# Altium footprint library Devindia_v2.0.PcbLib: 105 footprints (part 5 of 7)
Each footprint in its own frame and in the unit in brackets; x right, y up, seen from the top. Pads: shape width x height; smd on the part's side, far side on the other; paste and mask are expansions set on the pad; w line width, h text height; cw(c..) or ccw(c..) is an arc to the next point about the centre after c.
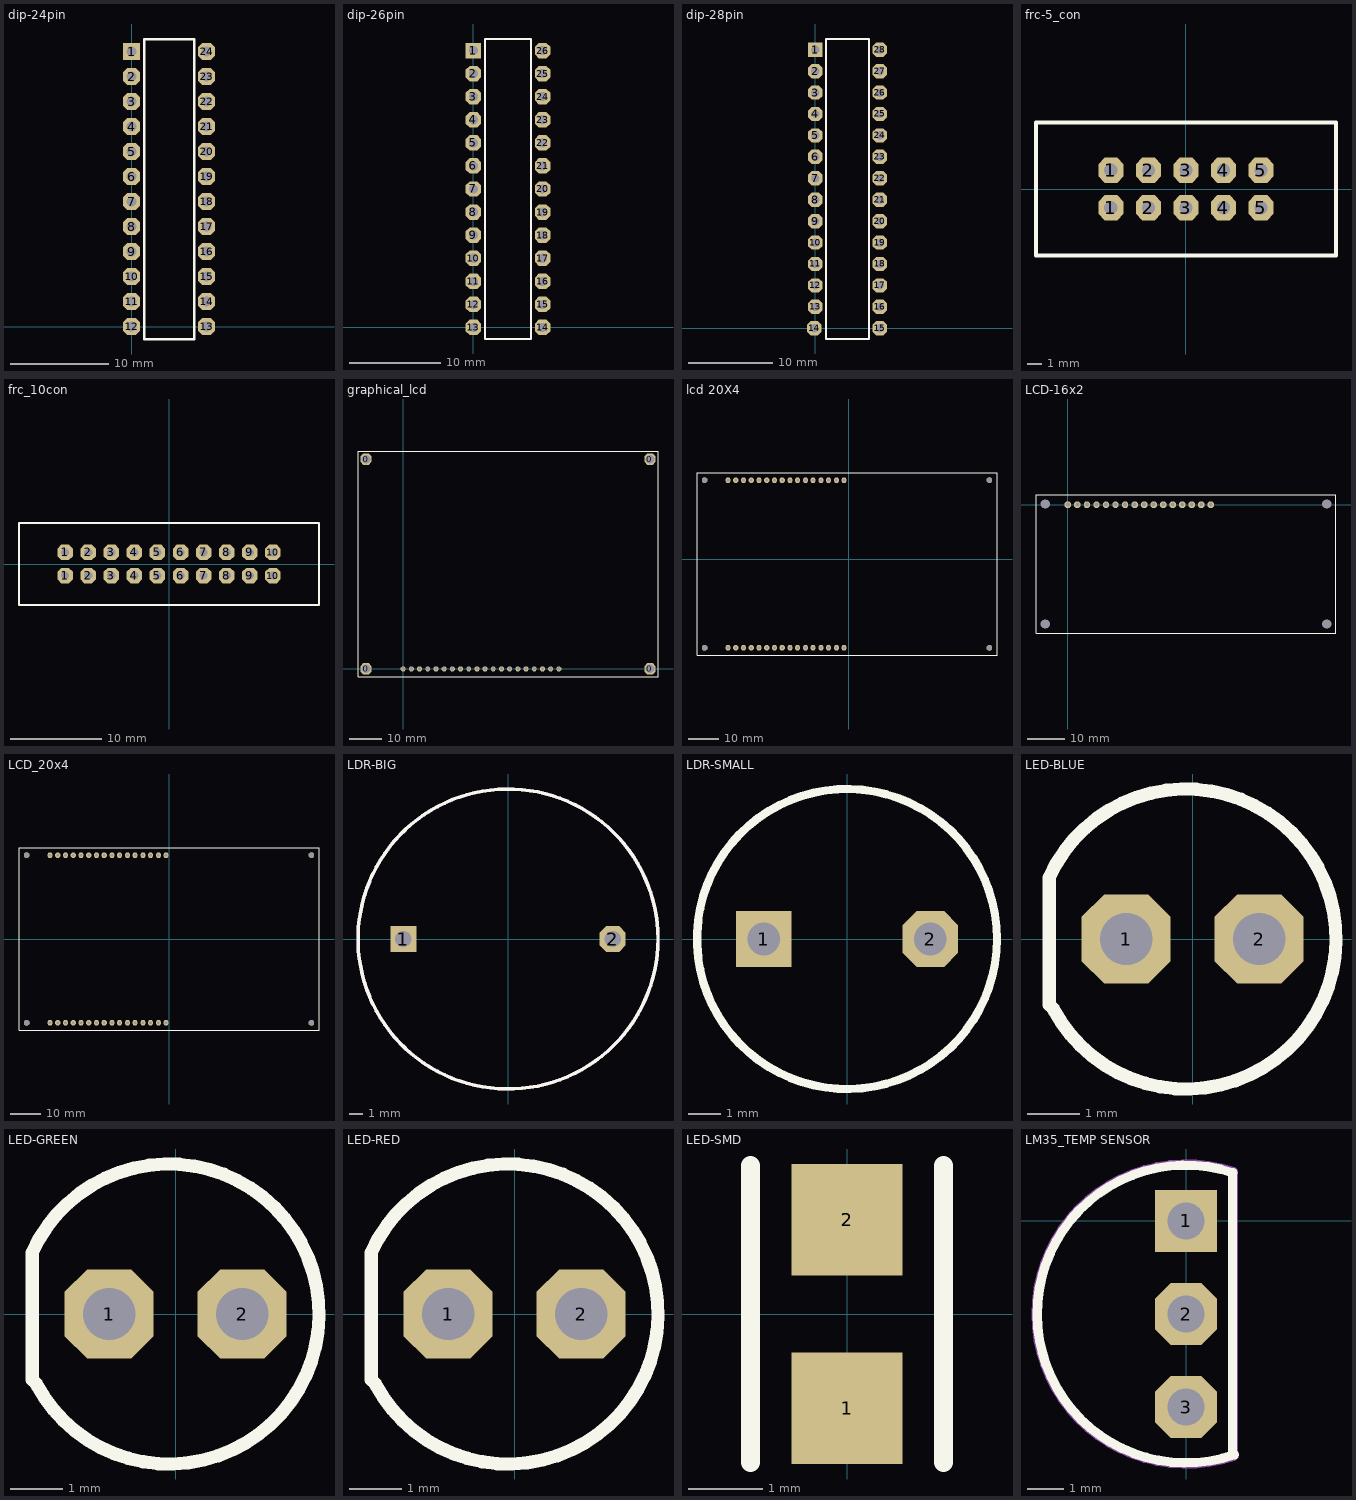
[diagram p4: the footprints below, top view; thin cyan lines are the x and y axes]

## dip-24pin [mm]
pads (24):
  rect 1.7x1.7 hole 1: 1(0,27.94)
  oct 1.7x1.7 hole 1: 2(0,25.4) 3(0,22.86) 4(0,20.32) 5(0,17.78) 6(0,15.24) 7(0,12.7) 8(0,10.16) 9(0,7.62) 10(0,5.08) 11(0,2.54) 12(0,0) 13(7.62,0) 14(7.62,2.54) 15(7.62,5.08) 16(7.62,7.62) 17(7.62,10.16) 18(7.62,12.7) 19(7.62,15.24) 20(7.62,17.78) 21(7.62,20.32) 22(7.62,22.86) 23(7.62,25.4) 24(7.62,27.94)
Top Overlay:
  lines w0.254: 1.27,-1.27 6.35,-1.27 6.35,29.21 1.27,29.21 1.27,-1.27
3D body: height 1.63, standoff 1.37, extent 7.621,4.699 7.873,5.461
3D body: height 1.5, standoff 0, extent 7.62,4.699 7.874,5.461
3D body: height 1.63, standoff 1.37, extent 7.621,7.239 7.873,8.001
3D body: height 1.5, standoff 0, extent 7.62,7.239 7.874,8.001
3D body: height 1.63, standoff 1.37, extent 5.842,2.159 7.747,2.921
3D body: height 1.63, standoff 1.37, extent 7.621,17.399 7.873,18.161
3D body: height 1.5, standoff 0, extent 7.62,17.399 7.874,18.161
3D body: height 1.63, standoff 1.37, extent 5.842,12.319 7.747,13.081
3D body: height 1.63, standoff 1.37, extent 7.621,14.859 7.873,15.621
3D body: height 1.5, standoff 0, extent 7.62,14.859 7.874,15.621
3D body: height 1.63, standoff 1.37, extent 5.842,9.779 7.747,10.541
3D body: height 1.63, standoff 1.37, extent 7.621,12.319 7.873,13.081
3D body: height 1.5, standoff 0, extent 7.62,12.319 7.874,13.081
3D body: height 1.63, standoff 1.37, extent 5.842,7.239 7.747,8.001
3D body: height 1.63, standoff 1.37, extent 7.621,9.779 7.873,10.541
3D body: height 1.5, standoff 0, extent 7.62,9.779 7.874,10.541
3D body: height 1.63, standoff 1.37, extent 5.842,4.699 7.747,5.461
3D body: height 1.63, standoff 1.37, extent 7.621,19.939 7.873,20.701
3D body: height 1.5, standoff 0, extent 7.62,19.939 7.874,20.701
3D body: height 1.63, standoff 1.37, extent 5.842,14.859 7.747,15.621
3D body: height 1.63, standoff 1.37, extent 7.621,22.479 7.873,23.241
3D body: height 1.5, standoff 0, extent 7.62,22.479 7.874,23.241
3D body: height 1.63, standoff 1.37, extent 5.842,17.399 7.747,18.161
3D body: height 1.63, standoff 1.37, extent 7.621,25.019 7.873,25.781
3D body: height 1.5, standoff 0, extent 7.62,25.019 7.874,25.781
3D body: height 1.63, standoff 1.37, extent 5.842,19.939 7.747,20.701
3D body: height 1.63, standoff 1.37, extent 7.621,27.559 7.873,28.321
3D body: height 1.5, standoff 0, extent 7.62,27.559 7.874,28.321
3D body: height 1.63, standoff 1.37, extent 5.842,22.479 7.747,23.241
3D body: height 1.63, standoff 1.37, extent 5.842,25.019 7.747,25.781
3D body: height 1.63, standoff 1.37, extent 5.842,27.559 7.747,28.321
3D body: height 1.63, standoff 1.37, extent 5.842,-0.381 7.747,0.381
3D body: height 1.5, standoff 0, extent 7.62,-0.381 7.874,0.381
3D body: height 1.63, standoff 1.37, extent 7.621,-0.381 7.873,0.381
3D body: height 1.63, standoff 1.37, extent -0.127,25.019 1.778,25.781
3D body: height 1.63, standoff 1.37, extent -0.127,27.559 1.778,28.321
3D body: height 1.63, standoff 1.37, extent -0.127,22.479 1.778,23.241
3D body: height 1.63, standoff 1.37, extent -0.127,19.939 1.778,20.701
3D body: height 1.63, standoff 1.37, extent -0.127,17.399 1.778,18.161
3D body: height 1.63, standoff 1.37, extent -0.127,14.859 1.778,15.621
3D body: height 1.63, standoff 1.37, extent -0.127,12.319 1.778,13.081
3D body: height 1.63, standoff 1.37, extent -0.127,9.779 1.778,10.541
3D body: height 1.63, standoff 1.37, extent -0.127,7.239 1.778,8.001
3D body: height 1.63, standoff 1.37, extent -0.127,4.699 1.778,5.461
3D body: height 1.63, standoff 1.37, extent -0.127,2.159 1.778,2.921
3D body: height 1.63, standoff 1.37, extent -0.127,-0.381 1.778,0.381
3D body: height 1.63, standoff 1.37, extent -0.126,27.559 0.126,28.321
3D body: height 1.5, standoff 0, extent -0.127,27.559 0.127,28.321
3D body: height 1.63, standoff 1.37, extent -0.126,25.019 0.126,25.781
3D body: height 1.5, standoff 0, extent -0.127,25.019 0.127,25.781
3D body: height 1.63, standoff 1.37, extent -0.126,22.479 0.126,23.241
3D body: height 1.5, standoff 0, extent -0.127,22.479 0.127,23.241
3D body: height 1.63, standoff 1.37, extent -0.126,19.939 0.126,20.701
3D body: height 1.5, standoff 0, extent -0.127,19.939 0.127,20.701
3D body: height 1.63, standoff 1.37, extent -0.126,17.399 0.126,18.161
3D body: height 1.5, standoff 0, extent -0.127,17.399 0.127,18.161
3D body: height 1.63, standoff 1.37, extent -0.126,14.859 0.126,15.621
3D body: height 1.5, standoff 0, extent -0.127,14.859 0.127,15.621
3D body: height 1.63, standoff 1.37, extent -0.126,12.319 0.126,13.081
3D body: height 1.5, standoff 0, extent -0.127,12.319 0.127,13.081
3D body: height 1.63, standoff 1.37, extent -0.126,9.779 0.126,10.541
3D body: height 1.5, standoff 0, extent -0.127,9.779 0.127,10.541
3D body: height 1.63, standoff 1.37, extent -0.126,7.112 0.126,7.874
3D body: height 1.5, standoff 0, extent -0.127,7.112 0.127,7.874
3D body: height 1.63, standoff 1.37, extent -0.126,4.699 0.126,5.461
3D body: height 1.5, standoff 0, extent -0.127,4.699 0.127,5.461
3D body: height 1.63, standoff 1.37, extent -0.126,2.159 0.126,2.921
3D body: height 1.5, standoff 0, extent -0.127,2.159 0.127,2.921
3D body: height 1.63, standoff 1.37, extent -0.126,-0.381 0.126,0.381
3D body: height 1.5, standoff 0, extent -0.127,-0.381 0.127,0.381
3D body: height 2, standoff 1.1, extent 1.27,-1.27 6.35,29.21
3D body: height 1.63, standoff 1.37, extent 7.494,7.239 7.746,8.001
3D body: height 1.5, standoff 0, extent 7.493,7.239 7.747,8.001
3D body: height 2.51, standoff 2.5, extent 2.041,27.452 3.039,28.448
3D body: height 2.5, standoff 2, extent 1.778,-1.27 5.842,29.21

## dip-26pin [mm]
pads (26):
  rect 1.7x1.7 hole 1: 1(0,30.48)
  oct 1.7x1.7 hole 1: 2(0,27.94) 3(0,25.4) 4(0,22.86) 5(0,20.32) 6(0,17.78) 7(0,15.24) 8(0,12.7) 9(0,10.16) 10(0,7.62) 11(0,5.08) 12(0,2.54) 13(0,0) 14(7.62,0) 15(7.62,2.54) 16(7.62,5.08) 17(7.62,7.62) 18(7.62,10.16) 19(7.62,12.7) 20(7.62,15.24) 21(7.62,17.78) 22(7.62,20.32) 23(7.62,22.86) 24(7.62,25.4) 25(7.62,27.94) 26(7.62,30.48)
Top Overlay:
  lines w0.254: 1.27,-1.27 1.27,31.75 6.35,31.75 6.35,-1.27 1.27,-1.27
3D body: height 2.5, standoff 2, extent 1.778,-1.27 5.842,31.75
3D body: height 2.51, standoff 2.5, extent 2.041,29.992 3.039,30.988
3D body: height 1.5, standoff 0, extent 7.493,4.699 7.747,5.461
3D body: height 1.63, standoff 1.37, extent 7.494,4.699 7.746,5.461
3D body: height 2, standoff 1.1, extent 1.27,-1.27 6.35,31.75
3D body: height 1.5, standoff 0, extent -0.127,2.159 0.127,2.921
3D body: height 1.63, standoff 1.37, extent -0.126,2.159 0.126,2.921
3D body: height 1.5, standoff 0, extent -0.127,4.699 0.127,5.461
3D body: height 1.63, standoff 1.37, extent -0.126,4.699 0.126,5.461
3D body: height 1.5, standoff 0, extent -0.127,7.239 0.127,8.001
3D body: height 1.63, standoff 1.37, extent -0.126,7.239 0.126,8.001
3D body: height 1.5, standoff 0, extent -0.127,9.652 0.127,10.414
3D body: height 1.63, standoff 1.37, extent -0.126,9.652 0.126,10.414
3D body: height 1.5, standoff 0, extent -0.127,12.319 0.127,13.081
3D body: height 1.63, standoff 1.37, extent -0.126,12.319 0.126,13.081
3D body: height 1.5, standoff 0, extent -0.127,14.859 0.127,15.621
3D body: height 1.63, standoff 1.37, extent -0.126,14.859 0.126,15.621
3D body: height 1.5, standoff 0, extent -0.127,17.399 0.127,18.161
3D body: height 1.63, standoff 1.37, extent -0.126,17.399 0.126,18.161
3D body: height 1.5, standoff 0, extent -0.127,19.939 0.127,20.701
3D body: height 1.63, standoff 1.37, extent -0.126,19.939 0.126,20.701
3D body: height 1.5, standoff 0, extent -0.127,22.479 0.127,23.241
3D body: height 1.63, standoff 1.37, extent -0.126,22.479 0.126,23.241
3D body: height 1.5, standoff 0, extent -0.127,25.019 0.127,25.781
3D body: height 1.63, standoff 1.37, extent -0.126,25.019 0.126,25.781
3D body: height 1.5, standoff 0, extent -0.127,27.559 0.127,28.321
3D body: height 1.63, standoff 1.37, extent -0.126,27.559 0.126,28.321
3D body: height 1.5, standoff 0, extent -0.127,30.099 0.127,30.861
3D body: height 1.63, standoff 1.37, extent -0.126,30.099 0.126,30.861
3D body: height 1.63, standoff 1.37, extent -0.127,2.159 1.778,2.921
3D body: height 1.63, standoff 1.37, extent -0.127,4.699 1.778,5.461
3D body: height 1.63, standoff 1.37, extent -0.127,7.239 1.778,8.001
3D body: height 1.63, standoff 1.37, extent -0.127,9.779 1.778,10.541
3D body: height 1.63, standoff 1.37, extent -0.127,12.319 1.778,13.081
3D body: height 1.63, standoff 1.37, extent -0.127,14.859 1.778,15.621
3D body: height 1.63, standoff 1.37, extent -0.127,17.399 1.778,18.161
3D body: height 1.63, standoff 1.37, extent -0.127,19.939 1.778,20.701
3D body: height 1.63, standoff 1.37, extent -0.127,22.479 1.778,23.241
3D body: height 1.63, standoff 1.37, extent -0.127,25.019 1.778,25.781
3D body: height 1.63, standoff 1.37, extent -0.127,30.099 1.778,30.861
3D body: height 1.63, standoff 1.37, extent -0.127,27.559 1.778,28.321
3D body: height 1.63, standoff 1.37, extent -0.253,-0.381 -0.001,0.381
3D body: height 1.5, standoff 0, extent -0.254,-0.381 0,0.381
3D body: height 1.63, standoff 1.37, extent -0.127,-0.381 1.778,0.381
3D body: height 1.63, standoff 1.37, extent 5.842,30.099 7.747,30.861
3D body: height 1.63, standoff 1.37, extent 5.842,27.559 7.747,28.321
3D body: height 1.63, standoff 1.37, extent 5.842,25.019 7.747,25.781
3D body: height 1.5, standoff 0, extent 7.62,30.099 7.874,30.861
3D body: height 1.63, standoff 1.37, extent 7.621,30.099 7.873,30.861
3D body: height 1.63, standoff 1.37, extent 5.842,22.479 7.747,23.241
3D body: height 1.5, standoff 0, extent 7.62,27.559 7.874,28.321
3D body: height 1.63, standoff 1.37, extent 7.621,27.559 7.873,28.321
3D body: height 1.63, standoff 1.37, extent 5.842,19.939 7.747,20.701
3D body: height 1.5, standoff 0, extent 7.62,25.019 7.874,25.781
3D body: height 1.63, standoff 1.37, extent 7.621,25.019 7.873,25.781
3D body: height 1.63, standoff 1.37, extent 5.842,17.399 7.747,18.161
3D body: height 1.5, standoff 0, extent 7.62,22.479 7.874,23.241
3D body: height 1.63, standoff 1.37, extent 7.621,22.479 7.873,23.241
3D body: height 1.63, standoff 1.37, extent 5.842,14.859 7.747,15.621
3D body: height 1.5, standoff 0, extent 7.62,19.939 7.874,20.701
3D body: height 1.63, standoff 1.37, extent 7.621,19.939 7.873,20.701
3D body: height 1.63, standoff 1.37, extent 5.842,12.319 7.747,13.081
3D body: height 1.5, standoff 0, extent 7.62,17.399 7.874,18.161
3D body: height 1.63, standoff 1.37, extent 7.621,17.399 7.873,18.161
3D body: height 1.63, standoff 1.37, extent 5.842,2.159 7.747,2.921
3D body: height 1.5, standoff 0, extent 7.62,7.239 7.874,8.001
3D body: height 1.63, standoff 1.37, extent 7.621,7.239 7.873,8.001
3D body: height 1.63, standoff 1.37, extent 5.842,4.699 7.747,5.461
3D body: height 1.5, standoff 0, extent 7.62,9.779 7.874,10.541
3D body: height 1.63, standoff 1.37, extent 7.621,9.779 7.873,10.541
3D body: height 1.63, standoff 1.37, extent 5.842,7.239 7.747,8.001
3D body: height 1.5, standoff 0, extent 7.62,12.319 7.874,13.081
3D body: height 1.63, standoff 1.37, extent 7.621,12.319 7.873,13.081
3D body: height 1.63, standoff 1.37, extent 5.842,9.779 7.747,10.541
3D body: height 1.5, standoff 0, extent 7.62,14.859 7.874,15.621
3D body: height 1.63, standoff 1.37, extent 7.621,14.859 7.873,15.621
3D body: height 1.63, standoff 1.37, extent 5.842,-0.381 7.747,0.381
3D body: height 1.5, standoff 0, extent 7.62,4.699 7.874,5.461
3D body: height 1.63, standoff 1.37, extent 7.621,4.699 7.873,5.461
3D body: height 1.5, standoff 0, extent 7.62,2.159 7.874,2.921
3D body: height 1.63, standoff 1.37, extent 7.621,2.159 7.873,2.921

## dip-28pin [mm]
pads (28):
  rect 1.7x1.7 hole 1: 1(0,33.02)
  oct 1.7x1.7 hole 1: 2(0,30.48) 3(0,27.94) 4(0,25.4) 5(0,22.86) 6(0,20.32) 7(0,17.78) 8(0,15.24) 9(0,12.7) 10(0,10.16) 11(0,7.62) 12(0,5.08) 13(0,2.54) 14(-0.126,0) 15(7.62,0) 16(7.62,2.54) 17(7.62,5.08) 18(7.62,7.62) 19(7.62,10.16) 20(7.62,12.7) 21(7.62,15.24) 22(7.62,17.78) 23(7.62,20.32) 24(7.62,22.86) 25(7.62,25.4) 26(7.62,27.94) 27(7.62,30.48) 28(7.62,33.02)
Top Overlay:
  lines w0.254: 1.27,-1.27 6.35,-1.27 6.35,34.29 1.27,34.29 1.27,-1.27
3D body: height 1.63, standoff 1.37, extent 7.621,-0.381 7.873,0.381
3D body: height 1.5, standoff 0, extent 7.62,-0.381 7.874,0.381
3D body: height 1.63, standoff 1.37, extent 5.842,-0.381 7.747,0.381
3D body: height 1.63, standoff 1.37, extent 7.621,2.159 7.873,2.921
3D body: height 1.5, standoff 0, extent 7.62,2.159 7.874,2.921
3D body: height 1.63, standoff 1.37, extent 5.842,2.159 7.747,2.921
3D body: height 1.63, standoff 1.37, extent 7.621,12.319 7.873,13.081
3D body: height 1.5, standoff 0, extent 7.62,12.319 7.874,13.081
3D body: height 1.63, standoff 1.37, extent 5.842,12.319 7.747,13.081
3D body: height 1.63, standoff 1.37, extent 7.621,9.779 7.873,10.541
3D body: height 1.5, standoff 0, extent 7.62,9.779 7.874,10.541
3D body: height 1.63, standoff 1.37, extent 5.842,9.779 7.747,10.541
3D body: height 1.63, standoff 1.37, extent 7.621,7.239 7.873,8.001
3D body: height 1.5, standoff 0, extent 7.62,7.239 7.874,8.001
3D body: height 1.63, standoff 1.37, extent 5.842,7.239 7.747,8.001
3D body: height 1.63, standoff 1.37, extent 7.621,4.699 7.873,5.461
3D body: height 1.5, standoff 0, extent 7.62,4.699 7.874,5.461
3D body: height 1.63, standoff 1.37, extent 5.842,4.699 7.747,5.461
3D body: height 1.63, standoff 1.37, extent 7.621,14.859 7.873,15.621
3D body: height 1.5, standoff 0, extent 7.62,14.859 7.874,15.621
3D body: height 1.63, standoff 1.37, extent 5.842,14.859 7.747,15.621
3D body: height 1.63, standoff 1.37, extent 7.621,17.399 7.873,18.161
3D body: height 1.5, standoff 0, extent 7.62,17.399 7.874,18.161
3D body: height 1.63, standoff 1.37, extent 5.842,17.399 7.747,18.161
3D body: height 1.63, standoff 1.37, extent 7.621,19.939 7.873,20.701
3D body: height 1.5, standoff 0, extent 7.62,19.939 7.874,20.701
3D body: height 1.63, standoff 1.37, extent 5.842,19.939 7.747,20.701
3D body: height 1.63, standoff 1.37, extent 7.621,22.479 7.873,23.241
3D body: height 1.5, standoff 0, extent 7.62,22.479 7.874,23.241
3D body: height 1.63, standoff 1.37, extent 5.842,22.479 7.747,23.241
3D body: height 1.63, standoff 1.37, extent 7.621,25.019 7.873,25.781
3D body: height 1.5, standoff 0, extent 7.62,25.019 7.874,25.781
3D body: height 1.63, standoff 1.37, extent 5.842,25.019 7.747,25.781
3D body: height 1.63, standoff 1.37, extent 7.621,27.559 7.873,28.321
3D body: height 1.5, standoff 0, extent 7.62,27.559 7.874,28.321
3D body: height 1.63, standoff 1.37, extent 5.842,27.559 7.747,28.321
3D body: height 1.63, standoff 1.37, extent 7.621,30.099 7.873,30.861
3D body: height 1.5, standoff 0, extent 7.62,30.099 7.874,30.861
3D body: height 1.63, standoff 1.37, extent 5.842,30.099 7.747,30.861
3D body: height 1.63, standoff 1.37, extent 7.621,32.639 7.873,33.401
3D body: height 1.5, standoff 0, extent 7.62,32.639 7.874,33.401
3D body: height 1.63, standoff 1.37, extent 5.842,32.639 7.747,33.401
3D body: height 1.63, standoff 1.37, extent -0.127,2.159 1.778,2.921
3D body: height 1.5, standoff 0, extent -0.254,2.159 0,2.921
3D body: height 1.63, standoff 1.37, extent -0.253,2.159 -0.001,2.921
3D body: height 1.63, standoff 1.37, extent -0.127,30.099 1.778,30.861
3D body: height 1.63, standoff 1.37, extent -0.127,32.639 1.778,33.401
3D body: height 1.63, standoff 1.37, extent -0.127,27.559 1.778,28.321
3D body: height 1.63, standoff 1.37, extent -0.127,25.019 1.778,25.781
3D body: height 1.63, standoff 1.37, extent -0.127,22.479 1.778,23.241
3D body: height 1.63, standoff 1.37, extent -0.127,19.939 1.778,20.701
3D body: height 1.63, standoff 1.37, extent -0.127,17.399 1.778,18.161
3D body: height 1.63, standoff 1.37, extent -0.127,14.859 1.778,15.621
3D body: height 1.63, standoff 1.37, extent -0.127,12.319 1.778,13.081
3D body: height 1.63, standoff 1.37, extent -0.127,9.779 1.778,10.541
3D body: height 1.63, standoff 1.37, extent -0.127,7.239 1.778,8.001
3D body: height 1.63, standoff 1.37, extent -0.127,4.699 1.778,5.461
3D body: height 1.63, standoff 1.37, extent -0.126,32.639 0.126,33.401
3D body: height 1.5, standoff 0, extent -0.127,32.639 0.127,33.401
3D body: height 1.63, standoff 1.37, extent -0.126,30.099 0.126,30.861
3D body: height 1.5, standoff 0, extent -0.127,30.099 0.127,30.861
3D body: height 1.63, standoff 1.37, extent -0.126,27.559 0.126,28.321
3D body: height 1.5, standoff 0, extent -0.127,27.559 0.127,28.321
3D body: height 1.63, standoff 1.37, extent -0.126,25.019 0.126,25.781
3D body: height 1.5, standoff 0, extent -0.127,25.019 0.127,25.781
3D body: height 1.63, standoff 1.37, extent -0.126,22.479 0.126,23.241
3D body: height 1.5, standoff 0, extent -0.127,22.479 0.127,23.241
3D body: height 1.63, standoff 1.37, extent -0.126,19.939 0.126,20.701
3D body: height 1.5, standoff 0, extent -0.127,19.939 0.127,20.701
3D body: height 1.63, standoff 1.37, extent -0.126,17.399 0.126,18.161
3D body: height 1.5, standoff 0, extent -0.127,17.399 0.127,18.161
3D body: height 1.63, standoff 1.37, extent -0.126,14.859 0.126,15.621
3D body: height 1.5, standoff 0, extent -0.127,14.859 0.127,15.621
3D body: height 1.63, standoff 1.37, extent -0.126,12.192 0.126,12.954
3D body: height 1.5, standoff 0, extent -0.127,12.192 0.127,12.954
3D body: height 1.63, standoff 1.37, extent -0.126,9.779 0.126,10.541
3D body: height 1.5, standoff 0, extent -0.127,9.779 0.127,10.541
3D body: height 1.63, standoff 1.37, extent -0.126,7.239 0.126,8.001
3D body: height 1.5, standoff 0, extent -0.127,7.239 0.127,8.001
3D body: height 1.63, standoff 1.37, extent -0.126,4.699 0.126,5.461
3D body: height 1.5, standoff 0, extent -0.127,4.699 0.127,5.461
3D body: height 2, standoff 1.1, extent 1.27,-1.27 6.35,34.29
3D body: height 1.63, standoff 1.37, extent -0.381,-0.381 -0.128,0.381
3D body: height 1.5, standoff 0, extent -0.381,-0.381 -0.127,0.381
3D body: height 1.63, standoff 1.37, extent -0.126,-0.381 1.779,0.381
3D body: height 1.63, standoff 1.37, extent 7.494,2.159 7.746,2.921
3D body: height 1.5, standoff 0, extent 7.493,2.159 7.747,2.921
3D body: height 2.51, standoff 2.5, extent 2.041,32.532 3.039,33.528
3D body: height 2.5, standoff 2, extent 1.778,-1.27 5.842,34.29

## frc-5_con [mm]
pads (10):
  oct 1.7x1.7 hole 0.9: 1(-5.08,-1.27) 1(-5.08,1.27) 2(-2.54,-1.27) 2(-2.54,1.27) 3(0,-1.27) 3(0,1.27) 4(2.54,-1.27) 4(2.54,1.27) 5(5.08,-1.27) 5(5.08,1.27)
Top Overlay:
  lines w0.254: -10.15,-4.5 10.16,-4.5 10.16,4.5 -10.15,4.5 -10.15,-4.5
3D body: height 5.26, standoff 0, extent -6.35,-2.54 6.35,2.54

## frc_10con [mm]
pads (20):
  oct 1.7x1.7 hole 0.9: 1(-11.43,-1.27) 1(-11.43,1.27) 2(-8.89,-1.27) 2(-8.89,1.27) 3(-6.35,-1.27) 3(-6.35,1.27) 4(-3.81,-1.27) 4(-3.81,1.27) 5(-1.27,-1.27) 5(-1.27,1.27) 6(1.27,-1.27) 6(1.27,1.27) 7(3.81,-1.27) 7(3.81,1.27) 8(6.35,-1.27) 8(6.35,1.27) 9(8.89,-1.27) 9(8.89,1.27) 10(11.43,-1.27) 10(11.43,1.27)
Top Overlay:
  lines w0.254: -16.5,-4.5 16.5,-4.5 16.5,4.5 -16.5,4.5 -16.5,-4.5
3D body: height 5.26, standoff 0, extent -12.7,-2.54 12.7,2.54

## graphical_lcd [mil]
pads (24):
  oct 137.8x137.8 hole 106.3: 0(-452.76,0) 0(-452.76,2559.06) 0(3011.81,0) 0(3011.81,2559.06)
  oct 60x60 hole 39.37: 1(0,0) 2(100,0) 3(200,0) 4(300,0) 5(400,0) 6(500,0) 7(600,0) 8(700,0) 9(800,0) 10(900,0) 11(1000,0) 12(1100,0) 13(1200,0) 14(1300,0) 15(1400,0) 16(1500,0) 17(1600,0) 18(1700,0) 19(1800,0) 20(1900,0)
Top Overlay:
  lines w10: -551.18,-98.43 3110.24,-98.43 3110.24,2657.48 -551.18,2657.48 -551.18,-98.43
3D body: height 78.74, standoff 0, extent 1880,-20 1919.21,19.29
3D body: height 78.74, standoff 0, extent 1780,-20 1819.21,19.29
3D body: height 78.74, standoff 0, extent 1380,-20 1419.21,19.29
3D body: height 78.74, standoff 0, extent 1480,-20 1519.21,19.29
3D body: height 78.74, standoff 0, extent 1580,-20 1619.21,19.29
3D body: height 78.74, standoff 0, extent 1680,-20 1719.21,19.29
3D body: height 78.74, standoff 0, extent 1280,-20 1319.21,19.29
3D body: height 78.74, standoff 0, extent 1080,-20 1119.21,19.29
3D body: height 78.74, standoff 0, extent 1180,-20 1219.21,19.29
3D body: height 78.74, standoff 0, extent 980,-20 1019.21,19.29
3D body: height 78.74, standoff 0, extent 880,-20 919.21,19.29
3D body: height 78.74, standoff 0, extent 780,-20 819.21,19.29
3D body: height 78.74, standoff 0, extent 680,-20 719.21,19.29
3D body: height 78.74, standoff 0, extent 580,-20 619.21,19.29
3D body: height 78.74, standoff 0, extent 480,-20 519.21,19.29
3D body: height 78.74, standoff 0, extent 380,-20 419.21,19.29
3D body: height 78.74, standoff 0, extent 280,-20 319.21,19.29
3D body: height 78.74, standoff 0, extent 180,-20 219.21,19.29
3D body: height 78.74, standoff 0, extent 80,-20 119.21,19.29
3D body: height 78.74, standoff 0, extent -20,-20 19.21,19.29
3D body: height 196.85, standoff 118.11, extent -550,-100 3110,2660
3D body: height 551.18, standoff 196.85, extent -330,180 2850,2410
3D body: height 551.57, standoff 551.18, extent -90,440 2580,2200

## lcd 20X4 [mm]
pads (36):
  oct 1.8x1.8 hole 1.7: 0(-47.347,25.976) 0(-47.307,-29.024) 0(46.077,-29.024) 0(46.077,25.976)
  oct 1.7x1.7 hole 0.9: 1(-39.688,-28.984) 1(-39.688,25.936) 2(-37.148,-28.984) 2(-37.148,25.936) 3(-34.608,-28.984) 3(-34.608,25.936) 4(-32.067,-28.984) 4(-32.067,25.936) 5(-29.527,-28.984) 5(-29.527,25.936) 6(-26.987,-28.984) 6(-26.987,25.936) 7(-24.447,-28.984) 7(-24.447,25.936) 8(-21.907,-28.984) 8(-21.907,25.936) 9(-19.367,-28.984) 9(-19.367,25.936) 10(-16.828,-28.984) 10(-16.828,25.936) 11(-14.287,-28.984) 11(-14.287,25.936) 12(-11.747,-28.984) 12(-11.747,25.936) 13(-9.207,-28.984) 13(-9.207,25.936) 14(-6.667,-28.984) 14(-6.667,25.936) 15(-4.127,-28.984) 15(-4.127,25.936) 16(-1.587,-28.984) 16(-1.587,25.936)
Top Overlay:
  lines w0.254: -49.847,-31.524 -49.847,28.476 48.578,28.476 48.578,-31.524 -49.847,-31.524
3D body: height 12.5, standoff 12, extent -48.387,24.511 -45.399,27.505
3D body: height 12.5, standoff 12, extent 44.45,24.384 47.438,27.378
3D body: height 12.5, standoff 12, extent 44.704,-30.226 47.692,-27.232
3D body: height 12.5, standoff 12, extent -48.641,-30.48 -45.653,-27.486
3D body: height 21, standoff 20.5, extent -36.83,-12.954 36.195,9.906
3D body: height 20.5, standoff 12, extent -47.625,-20.701 46.482,18.161
3D body: height 12, standoff 10.5, extent -49.911,-31.75 49.276,28.448
3D body: height 10.8, standoff 0, extent -2.032,-29.464 -1.036,-28.466
3D body: height 10.8, standoff 0, extent -4.572,-29.464 -3.576,-28.466
3D body: height 10.8, standoff 0, extent -7.112,-29.464 -6.116,-28.466
3D body: height 10.8, standoff 0, extent -9.652,-29.464 -8.656,-28.466
3D body: height 10.8, standoff 0, extent -12.192,-29.464 -11.196,-28.466
3D body: height 10.8, standoff 0, extent -14.732,-29.464 -13.736,-28.466
3D body: height 10.8, standoff 0, extent -17.272,-29.464 -16.276,-28.466
3D body: height 10.8, standoff 0, extent -19.812,-29.464 -18.816,-28.466
3D body: height 10.8, standoff 0, extent -22.352,-29.464 -21.356,-28.466
3D body: height 10.8, standoff 0, extent -24.892,-29.464 -23.896,-28.466
3D body: height 10.8, standoff 0, extent -27.559,-29.464 -26.563,-28.466
3D body: height 10.8, standoff 0, extent -29.972,-29.464 -28.976,-28.466
3D body: height 10.8, standoff 0, extent -32.512,-29.464 -31.516,-28.466
3D body: height 10.8, standoff 0, extent -35.052,-29.464 -34.056,-28.466
3D body: height 10.8, standoff 0, extent -37.592,-29.464 -36.596,-28.466
3D body: height 10.8, standoff 0, extent -40.132,-29.464 -39.136,-28.466
3D body: height 10.8, standoff 0, extent -2.032,25.527 -1.036,26.525
3D body: height 10.8, standoff 0, extent -4.572,25.527 -3.576,26.525
3D body: height 10.8, standoff 0, extent -7.112,25.527 -6.116,26.525
3D body: height 10.8, standoff 0, extent -9.652,25.4 -8.656,26.398
3D body: height 10.8, standoff 0, extent -12.192,25.527 -11.196,26.525
3D body: height 10.8, standoff 0, extent -14.732,25.527 -13.736,26.525
3D body: height 10.8, standoff 0, extent -17.272,25.527 -16.276,26.525
3D body: height 10.8, standoff 0, extent -19.812,25.4 -18.816,26.398
3D body: height 10.8, standoff 0, extent -22.352,25.527 -21.356,26.525
3D body: height 10.8, standoff 0, extent -24.892,25.527 -23.896,26.525
3D body: height 10.8, standoff 0, extent -27.559,25.4 -26.563,26.398
3D body: height 10.8, standoff 0, extent -29.972,25.527 -28.976,26.525
3D body: height 10.8, standoff 0, extent -32.639,25.527 -31.643,26.525
3D body: height 10.8, standoff 0, extent -35.179,25.4 -34.183,26.398
3D body: height 10.8, standoff 0, extent -37.592,25.527 -36.596,26.525
3D body: height 10.8, standoff 0, extent -40.259,25.4 -39.263,26.398

## LCD-16x2 [mm]
pads (20):
  oct 1.7x1.7 hole 1: 1(0,0) 2(2.54,0) 3(5.08,0) 4(7.62,0) 5(10.16,0) 6(12.7,0) 7(15.24,0) 8(17.78,0) 9(20.32,0) 10(22.86,0) 11(25.4,0) 12(27.94,0) 13(30.48,0) 14(33.02,0) 15(35.56,0) 16(38.1,0)
  round 1.524 hole 2.5: no(-6,-31.85) no(-6,0.15) no(69,-31.85) no(69,0.15)
Top Overlay:
  lines w0.254: -8.509,-34.35 -8.509,2.032 -8.5,2.041 -8.5,2.65 71.5,2.65 71.5,-34.35 -8.5,-34.35 ; 71.5,1.652 71.501,1.651
3D body: height 11, standoff 9.4, extent -8.382,-34.036 71.374,2.667
3D body: height 9.6, standoff 0, extent -0.508,-0.508 0.49,0.488
3D body: height 9.6, standoff 0, extent 2.032,-0.508 3.03,0.488
3D body: height 9.6, standoff 0, extent 4.572,-0.508 5.57,0.488
3D body: height 9.6, standoff 0, extent 7.112,-0.508 8.11,0.488
3D body: height 9.6, standoff 0, extent 9.652,-0.508 10.65,0.488
3D body: height 9.6, standoff 0, extent 12.192,-0.508 13.19,0.488
3D body: height 9.6, standoff 0, extent 14.732,-0.508 15.73,0.488
3D body: height 9.6, standoff 0, extent 17.272,-0.508 18.27,0.488
3D body: height 9.6, standoff 0, extent 19.812,-0.508 20.81,0.488
3D body: height 9.6, standoff 0, extent 22.352,-0.508 23.35,0.488
3D body: height 9.6, standoff 0, extent 24.892,-0.508 25.89,0.488
3D body: height 9.6, standoff 0, extent 27.432,-0.508 28.43,0.488
3D body: height 9.6, standoff 0, extent 29.972,-0.508 30.97,0.488
3D body: height 9.6, standoff 0, extent 32.512,-0.508 33.51,0.488
3D body: height 9.6, standoff 0, extent 35.052,-0.508 36.05,0.488
3D body: height 9.6, standoff 0, extent 37.592,-0.508 38.59,0.488
3D body: height 20.6, standoff 10.6, extent -3.81,-27.94 66.675,-4.445
3D body: height 21.6, standoff 20.6, extent -1.27,-22.86 64.135,-8.89
3D body: height 14.4, standoff 11, extent 66.675,-25.4 71.12,-7.62
3D body: height 11.5, standoff 11, extent 67.725,-1.2 70.719,1.788
3D body: height 11.5, standoff 11, extent 67.425,-33.325 70.419,-30.337
3D body: height 11.5, standoff 11, extent -7.425,-33.275 -4.431,-30.287
3D body: height 11.5, standoff 11, extent -7.45,-1.4 -4.456,1.588

## LCD_20x4 [mm]
pads (36):
  oct 1.8x1.8 hole 1.7: 0(-46.712,27.5) 0(-46.672,-27.5) 0(46.712,-27.5) 0(46.712,27.5)
  oct 1.7x1.7 hole 0.9: 1(-39.052,-27.46) 1(-39.052,27.46) 2(-36.512,-27.46) 2(-36.512,27.46) 3(-33.972,-27.46) 3(-33.972,27.46) 4(-31.432,-27.46) 4(-31.432,27.46) 5(-28.892,-27.46) 5(-28.892,27.46) 6(-26.352,-27.46) 6(-26.352,27.46) 7(-23.812,-27.46) 7(-23.812,27.46) 8(-21.273,-27.46) 8(-21.273,27.46) 9(-18.732,-27.46) 9(-18.732,27.46) 10(-16.192,-27.46) 10(-16.192,27.46) 11(-13.652,-27.46) 11(-13.652,27.46) 12(-11.112,-27.46) 12(-11.112,27.46) 13(-8.572,-27.46) 13(-8.572,27.46) 14(-6.032,-27.46) 14(-6.032,27.46) 15(-3.492,-27.46) 15(-3.492,27.46) 16(-0.953,-27.46) 16(-0.953,27.46)
Top Overlay:
  lines w0.254: -49.212,-30 -49.212,30 49.212,30 49.212,-30 -49.212,-30
3D body: height 12.5, standoff 12, extent -47.752,26.035 -44.764,29.029
3D body: height 12.5, standoff 12, extent 45.085,25.908 48.073,28.902
3D body: height 12.5, standoff 12, extent 45.339,-28.702 48.327,-25.708
3D body: height 12.5, standoff 12, extent -48.006,-28.956 -45.018,-25.962
3D body: height 21, standoff 20.5, extent -36.195,-11.43 36.83,11.43
3D body: height 20.5, standoff 12, extent -46.99,-19.177 47.117,19.685
3D body: height 12, standoff 10.5, extent -49.276,-30.226 49.911,29.972
3D body: height 12, standoff 10.5
3D body: height 10.8, standoff 0, extent -1.397,-27.94 -0.401,-26.942
3D body: height 10.8, standoff 0, extent -3.937,-27.94 -2.941,-26.942
3D body: height 10.8, standoff 0, extent -6.477,-27.94 -5.481,-26.942
3D body: height 10.8, standoff 0, extent -9.017,-27.94 -8.021,-26.942
3D body: height 10.8, standoff 0, extent -11.557,-27.94 -10.561,-26.942
3D body: height 10.8, standoff 0, extent -14.097,-27.94 -13.101,-26.942
3D body: height 10.8, standoff 0, extent -16.637,-27.94 -15.641,-26.942
3D body: height 10.8, standoff 0, extent -19.177,-27.94 -18.181,-26.942
3D body: height 10.8, standoff 0, extent -21.717,-27.94 -20.721,-26.942
3D body: height 10.8, standoff 0, extent -24.257,-27.94 -23.261,-26.942
3D body: height 10.8, standoff 0, extent -26.924,-27.94 -25.928,-26.942
3D body: height 10.8, standoff 0, extent -29.337,-27.94 -28.341,-26.942
3D body: height 10.8, standoff 0, extent -31.877,-27.94 -30.881,-26.942
3D body: height 10.8, standoff 0, extent -34.417,-27.94 -33.421,-26.942
3D body: height 10.8, standoff 0, extent -36.957,-27.94 -35.961,-26.942
3D body: height 10.8, standoff 0, extent -39.497,-27.94 -38.501,-26.942
3D body: height 10.8, standoff 0, extent -1.397,27.051 -0.401,28.049
3D body: height 10.8, standoff 0, extent -3.937,27.051 -2.941,28.049
3D body: height 10.8, standoff 0, extent -6.477,27.051 -5.481,28.049
3D body: height 10.8, standoff 0, extent -9.017,26.924 -8.021,27.922
3D body: height 10.8, standoff 0, extent -11.557,27.051 -10.561,28.049
3D body: height 10.8, standoff 0, extent -14.097,27.051 -13.101,28.049
3D body: height 10.8, standoff 0, extent -16.637,27.051 -15.641,28.049
3D body: height 10.8, standoff 0, extent -19.177,26.924 -18.181,27.922
3D body: height 10.8, standoff 0, extent -21.717,27.051 -20.721,28.049
3D body: height 10.8, standoff 0, extent -24.257,27.051 -23.261,28.049
3D body: height 10.8, standoff 0, extent -26.924,26.924 -25.928,27.922
3D body: height 10.8, standoff 0, extent -29.337,27.051 -28.341,28.049
3D body: height 10.8, standoff 0, extent -32.004,27.051 -31.008,28.049
3D body: height 10.8, standoff 0, extent -34.544,26.924 -33.548,27.922
3D body: height 10.8, standoff 0, extent -36.957,27.051 -35.961,28.049
3D body: height 10.8, standoff 0, extent -39.624,26.924 -38.628,27.922

## LDR-BIG [mm]
pads (2):
  rect 1.9x1.9 hole 1.2: 1(-7.62,0)
  oct 1.9x1.9 hole 1.2: 2(7.62,0)
Top Overlay:
  circle w0.254: c0,0 r10.922
Mechanical 1:
  circle w0.254: c0,0 r10.922
3D body: height 5.3, standoff 5.1, extent 6.604,-7.366 7.366,6.35
3D body: height 5.3, standoff 5.1, extent 4.064,-9.398 4.826,9.144
3D body: height 5.3, standoff 5.1, extent 1.524,-10.668 2.286,10.668
3D body: height 5.3, standoff 5.1, extent -7.62,-7.112 -6.858,6.604
3D body: height 5.3, standoff 5.1, extent -4.572,-8.382 -3.81,8.636
3D body: height 5.3, standoff 5.1, extent -2.54,-10.922 -1.778,10.414
3D body: height 5.3, standoff 5.1, extent -0.254,-10.414 0.254,10.922
3D body: height 4, standoff 0, extent 7.112,-0.498 8.11,0.498
3D body: height 4, standoff 0, extent -8.128,-0.508 -7.13,0.488
3D body: height 5.2, standoff 5.1, extent -10.878,-10.922 10.878,10.792
3D body: height 5, standoff 4, extent -10.878,-10.922 10.878,10.792

## LDR-SMALL [mm]
pads (2):
  rect 1.7x1.7 hole 1: 1(-2.54,0)
  oct 1.7x1.7 hole 1: 2(2.54,0)
Top Overlay:
  circle w0.254: c0,0 r4.572
3D body: height 5.1, standoff 5, extent -4.393,-4.482 4.59,4.482
3D body: height 4, standoff 0, extent 2.032,-0.508 3.03,0.488
3D body: height 4, standoff 0, extent -3.048,-0.508 -2.05,0.488
3D body: height 5, standoff 4, extent -4.393,-4.491 4.572,4.491
3D body: height 5.3, standoff 5.1, extent -3.302,-1.661 -3.048,1.641
3D body: height 5.3, standoff 5.1, extent 3.302,-2.032 3.556,1.27
3D body: height 5.3, standoff 5.1, extent 2.54,-2.286 2.794,2.032
3D body: height 5.3, standoff 5.1, extent 1.778,-2.794 2.032,2.54
3D body: height 5.3, standoff 5.1, extent 1.016,-3.048 1.27,2.794
3D body: height 5.3, standoff 5.1, extent -0.254,-2.921 0,2.921
3D body: height 5.3, standoff 5.1, extent -1.778,-2.667 -1.524,2.667
3D body: height 5.3, standoff 5.1, extent -2.54,-2.159 -2.286,2.159

## LED-BLUE [mm]
pads (2):
  oct 1.7x1.7 hole 1: 1(-1.27,0) 2(1.27,0)
Top Overlay:
  lines w0.254: -2.74,-1.257 -2.74,1.176 cw(c-0.127,0) -2.663,-1.334
3D body: height 1, standoff 0, extent -2.911,-2.667 2.667,2.921
3D body: height 9, standoff 4, extent -2.614,-2.402 2.36,2.577
3D body: height 6.5, standoff 1, extent -2.617,-2.413 2.363,2.577

## LED-GREEN [mm]
pads (2):
  oct 1.7x1.7 hole 1: 1(-1.27,0) 2(1.27,0)
Top Overlay:
  lines w0.254: -2.74,-1.257 -2.74,1.176 cw(c-0.127,0) -2.663,-1.334
3D body: height 6.5, standoff 1, extent -2.617,-2.413 2.363,2.577
3D body: height 9, standoff 4, extent -2.614,-2.402 2.36,2.577
3D body: height 1, standoff 0, extent -2.911,-2.667 2.667,2.921

## LED-RED [mm]
pads (2):
  oct 1.7x1.7 hole 1: 1(-1.27,0) 2(1.27,0)
Top Overlay:
  lines w0.254: -2.74,-1.257 -2.74,1.176 cw(c-0.127,0) -2.663,-1.334
3D body: height 1, standoff 0, extent -2.911,-2.667 2.667,2.921
3D body: height 9, standoff 4, extent -2.614,-2.402 2.36,2.577
3D body: height 6.5, standoff 1, extent -2.617,-2.413 2.363,2.577

## LED-SMD [mm]
pads (2):
  rect 1.5x1.5 all layers, no hole: 1(0,-1.27) 2(0,1.27)
Top Overlay:
  lines w0.254: -1.3,-2 -1.3,2 ; 1.3,-2 1.3,2
3D body: height 0.05, standoff -0.05, extent 0.762,-1.012 0.862,-0.512
3D body: height 1.15, standoff 0, extent -0.762,-1.27 0.762,1.27

## LM35_TEMP SENSOR [mm]
pads (3):
  rect 1.7x1.7 hole 1: 1(0,0)
  oct 1.7x1.7 hole 1: 2(0,-2.54) 3(0,-5.08)
Top Overlay:
  lines w0.254: 1.27,-6.35 1.27,0.635 1.27,1.27 ; 1.285,1.315 ccw(c0,-2.54) 1.325,-6.382
Mechanical 1:
  lines w0.254: 1.295,-6.425 cw(c0,-2.54) 1.295,1.345 1.295,-6.425
3D body: height 3, standoff 0, extent -0.498,-5.588 0.498,-4.59
3D body: height 3, standoff 0, extent -0.498,-3.048 0.498,-2.05
3D body: height 3, standoff 0, extent -0.498,-0.508 0.498,0.49
3D body: height 7, standoff 3, extent -4.109,-6.649 1.299,1.569